# Altium schematic symbol library conn_powerJack.SchLib: 19 symbols
Pins are listed as number, name and electrical type; pins without a type are passive.

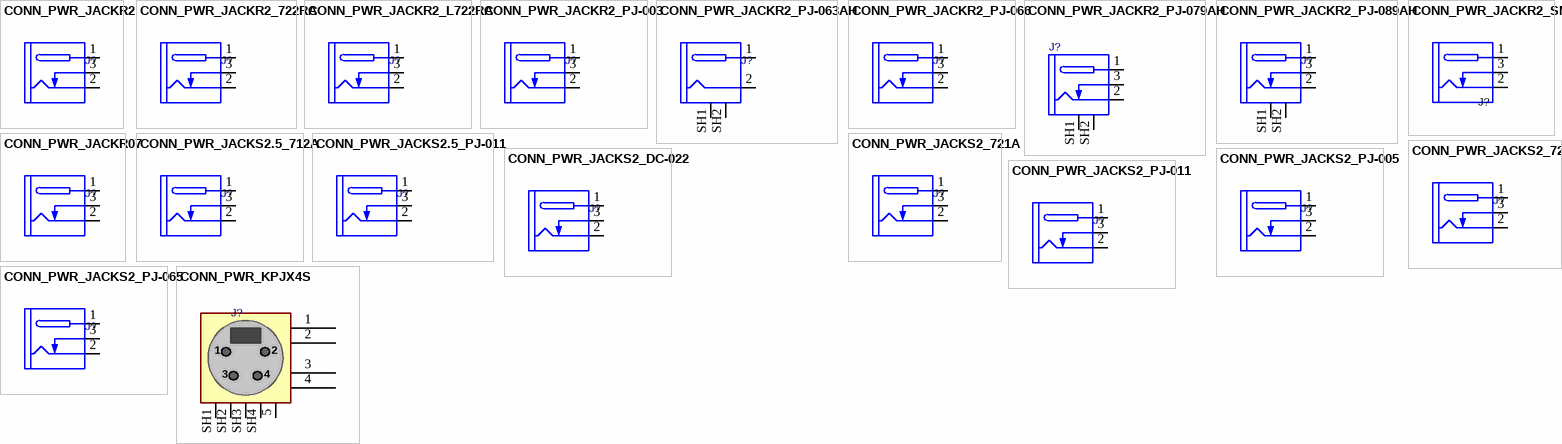
[diagram p0: symbols CONN_PWR_JACKR2 to CONN_PWR_KPJX4S]

## CONN_PWR_JACKR2
designator J?, comment DC_POWER_JACK  (value not drawn)
CONN, PWR JACK DC, PLUG DIAM 2.0MM RA THD; MANF: CUI STACK; MANF_P#: PJ-202A, PJ-002AH, PJ-102AH, KLDX-0202; VALUE: DC_POWER_JACK
footprint JAC_PWR2 (DC POWER JACK, Power Jack KLDX-0202)
pins: 1 TIP (power), 2 SLEEVE (power), 3 INSERTION_DET (power)

## CONN_PWR_JACKR2_722RA
designator J?, comment DC_POWER_JACK  (value not drawn)
CONN, PWR JACK DC, PLUG DIAM 2.0MM THD; MANF: Switchcraft; MANF_P#: 722RA; PARAM: 5A, 24VDC; PARAM2: -25~70°C; VALUE: DC_POWER_JACK; PRICE: 2$
footprint JAC_PWR2_722RA (DC POWER JACK, 2.1mm Dia, 722RA, right angled)
pins: 1 TIP (power), 2 SLEEVE (power), 3 INSERTION_DET (power)

## CONN_PWR_JACKR2_L722RA
designator J?, comment DC_POWER_JACK  (value not drawn)
CONN, PWR JACK DC, PLUG DIAM 2.0MM THD; MANF: Switchcraft; MANF_P#: L722RA; PARAM: 5A, 24VDC; VALUE: DC_POWER_JACK; PARAM2: -; PRICE: 2$
footprint JAC_PWR2_L722RA (DC POWER JACK, 2.1mm Dia, L722RA, right angled)
pins: 1 TIP (power), 2 SLEEVE (power), 3 INSERTION_DET (power)

## CONN_PWR_JACKR2_PJ-003
designator J?, comment DC_POWER_JACK  (value not drawn)
CONN, PWR JACK DC, PLUG DIAM 2.0MM RA THD; MANF: CUI STACK; MANF_P#: PJ-003A; VALUE: DC_POWER_JACK
footprint JAC_PWR2_PJ003 (DC POWER JACK, CUI Inc. PJ-003A, 7.8mm Height, 2mm Center pin)
pins: 1 TIP (power), 2 SLEEVE (power), 3 INSERTION_DET (power)

## CONN_PWR_JACKR2_PJ-063AH
designator J?, comment DC_POWER_JACK  (value not drawn)
CONN, PWR JACK DC, PLUG DIAM 2.0MM RA THD Shield; MANF: CUI Device; MANF_P#: PJ-063AH; PARAM: 8A; PARAM2: 24V; VALUE: DC_POWER_JACK
footprint JAC_PWR2_PJ063AH (DC POWER JACK, CUI PJ-063AH, 2mm Center pin)
pins: 1 TIP (power), 2 SLEEVE (power), SH1 (power), SH2 (power)

## CONN_PWR_JACKR2_PJ-066
designator J?, comment DC_POWER_JACK  (value not drawn)
CONN, PWR JACK DC, PLUG DIAM 2.0MM THD; MANF: CUI; MANF_P#: PJ-066A; PARAM: 5A, 24VDC; PARAM2: -25~70°C; VALUE: DC_POWER_JACK; PRICE: 2$
footprint JAC_PWR2_PJ066 (DC POWER JACK, 2.1mm Dia, PJ-066A, right angled)
pins: 1 TIP (power), 2 SLEEVE (power), 3 INSERTION_DET (power)

## CONN_PWR_JACKR2_PJ-079AH
designator J?, comment DC_POWER_JACK  (value not drawn)
CONN, PWR JACK DC, PLUG DIAM 2.0MM RA THD Shield; MANF: CUI Device; MANF_P#: PJ-079AH; PARAM: 5A; PARAM2: 24V; PRICE: 1$; VALUE: DC_POWER_JACK
footprint JAC_PWR2_PJ079AH (DC POWER JACK, CUI PJ-079AH, 2mm Center pin)
pins: 1 TIP (power), 2 SLEEVE (power), 3 INSERTION_DET (power), SH1 (power), SH2 (power)

## CONN_PWR_JACKR2_PJ-089AH
designator J?, comment DC_POWER_JACK  (value not drawn)
CONN, PWR JACK DC, PLUG DIAM 2.0MM RA THD Shield; MANF: CUI Device; MANF_P#: PJ-089AH-MSMT; PARAM: 5A; PARAM2: 24V; VALUE: DC_POWER_JACK; PRICE: 2$
footprint JAC_PWR2_PJ089AH (DC POWER JACK, CUI PJ-089AH-MSMT, midmount, 5.4mm Height, 2mm Center pin)
pins: 1 TIP (power), 2 SLEEVE (power), 3 INSERTION_DET (power), SH1 (power), SH2 (power)

## CONN_PWR_JACKR2_SMD
designator J?, comment PWR_JACK  (value not drawn)
CONN, PWR JACK, SMD  2.0mm x 6.3mm; MANF: CUI Inc; MANF_P#: PJ-036A-SMT; VALUE: PWR_JACK
footprint JAC_PWR2_SMD (DC POWER JACK, CUI PJ-036A-SMT)
pins: 1 TIP (power), 2 SLEEVE (power), 3 INSERTION_DET (power)

## CONN_PWR_JACKR07
designator J?, comment DC_POWER_JACK  (value not drawn)
CONN, PWR JACK DC, PLUG DIAM 0.7mm , RA THD; MANF: Kobiconn; MANF_P#: 163-4307-E; VALUE: DC_POWER_JACK
footprint JAC_PWR07 (Power Connector, 0.7mm ID, 2.35mm OD)
pins: 1 TIP (power), 2 SLEEVE (power), 3 INSERTION_DET (power)

## CONN_PWR_JACKS2.5_712A
designator J?, comment DC_POWER_JACK  (value not drawn)
CONN, PWR JACK DC, PLUG DIAM 2.5MM ST THD; MANF: SWITCHCRAFT; MANF_P#: 712A; PARAM: 5A, 48V; PARAM2: -40~65°C; VALUE: DC_POWER_JACK; PRICE: 2.5$
footprint JAC_PWRS2P5_712 (DC POWER JACK, 2.5mm Dia, SWITCHCRAFT 712A)
pins: 1 TIP (power), 2 SLEEVE (power), 3 INSERTION_DET (power)

## CONN_PWR_JACKS2.5_PJ-011
designator J?, comment DC_POWER_JACK  (value not drawn)
CONN, PWR JACK DC, PLUG DIAM 2.5MM ST THD; MANF: CUI; MANF_P#: PJ-011B; PARAM: 2A, 12VDC; PARAM2: -30~70°C; VALUE: DC_POWER_JACK; PRICE: 2$
footprint JAC_PWRS2_PJ011 (DC POWER JACK, 2.0mm Dia, PJ-011A)
pins: 1 TIP (power), 2 SLEEVE (power), 3 INSERTION_DET (power)

## CONN_PWR_JACKS2_721A
designator J?, comment DC_POWER_JACK  (value not drawn)
CONN, PWR JACK DC, PLUG DIAM 2.1MM ST THD; MANF: SWITCHCRAFT; MANF_P#: 721A; PARAM: 5A, 30VDC; PARAM2: -40~65°C; VALUE: DC_POWER_JACK; PRICE: 4$
footprint JAC_PWRS2_721 (DC POWER JACK, 2.1mm Dia, SWITCHCRAFT 721A)
pins: 1 TIP (power), 2 SLEEVE (power), 3 INSERTION_DET (power)

## CONN_PWR_JACKS2_722A
designator J?, comment DC_POWER_JACK  (value not drawn)
CONN, PWR JACK DC, PLUG DIAM 2.0MM ST THD; MANF: SWITCHCRAFT; MANF_P#: 722A; PARAM: 5A, 30VDC; PARAM2: -40~65°C; VALUE: DC_POWER_JACK; PRICE: 4$
footprint JAC_PWRS2_721 (DC POWER JACK, 2.1mm Dia, SWITCHCRAFT 721A)
pins: 1 TIP (power), 2 SLEEVE (power), 3 INSERTION_DET (power)

## CONN_PWR_JACKS2_DC-022
designator J?, comment DC_POWER_JACK  (value not drawn)
CONN, PWR JACK DC, PLUG DIAM 2.0MM ST THD; MANF: KLS; MANF_P#: KLS1-DC-022B; PARAM: 1A, 30VDC; PARAM2: -30~70°C; VALUE: DC_POWER_JACK; PRICE: 900t
footprint JAC_PWRS2_DC022 (DC POWER JACK, 2.1mm Dia, DC-022)
pins: 1 TIP (power), 2 SLEEVE (power), 3 INSERTION_DET (power)

## CONN_PWR_JACKS2_PJ-005
designator J?, comment DC_POWER_JACK  (value not drawn)
CONN, PWR JACK DC, PLUG DIAM 2.0MM ST THD; MANF: CUI; MANF_P#: PJ-005A; PARAM: 5A, 24VDC; PARAM2: -40~70°C; VALUE: DC_POWER_JACK; PRICE: 2$
footprint JAC_PWRS2_PJ005 (DC POWER JACK, 2.1mm Dia, PJ-005A)
pins: 1 TIP (power), 2 SLEEVE (power), 3 INSERTION_DET (power)

## CONN_PWR_JACKS2_PJ-011
designator J?, comment DC_POWER_JACK  (value not drawn)
CONN, PWR JACK DC, PLUG DIAM 2.5MM ST THD; MANF: CUI; MANF_P#: PJ-011A; PARAM: 2A, 12VDC; PARAM2: -30~70°C; VALUE: DC_POWER_JACK; PRICE: 2$
footprint JAC_PWRS2_PJ011 (DC POWER JACK, 2.0mm Dia, PJ-011A)
pins: 1 TIP (power), 2 SLEEVE (power), 3 INSERTION_DET (power)

## CONN_PWR_JACKS2_PJ-065
designator J?, comment DC_POWER_JACK  (value not drawn)
CONN, PWR JACK DC, PLUG DIAM 2.0MM ST THD; MANF: CUI; MANF_P#: PJ-065A; PARAM: 5A, 24VDC; PARAM2: -40~70°C; VALUE: DC_POWER_JACK; PRICE: 2$
footprint JAC_PWRS2_PJ065 (Footprint not found)
pins: 1 TIP (power), 2 SLEEVE (power), 3 INSERTION_DET (power)

## CONN_PWR_KPJX4S
designator J?, comment KPJX-4S  (value not drawn)
CONN, PWR, KPJX-4S; MANF_P#: KPJX-4S-S; MANF: Kycon; PARAM: 7.5A; PARAM2: 20V; VALUE: KPJX-4S; PRICE: 5.6$
footprint JAC_PWR_DIN4 (Power Connector, KPJX-4S-S)
pins: 1, 2, 3, 4, 5 GND, SH1, SH2, SH3, SH4